# Altium footprint library uw.PCBLIB: 5 footprints
Each footprint in its own frame and in the unit in brackets; x right, y up, seen from the top. Pads: shape width x height; smd on the part's side, far side on the other; paste and mask are expansions set on the pad; w line width, h text height; cw(c..) or ccw(c..) is an arc to the next point about the centre after c.
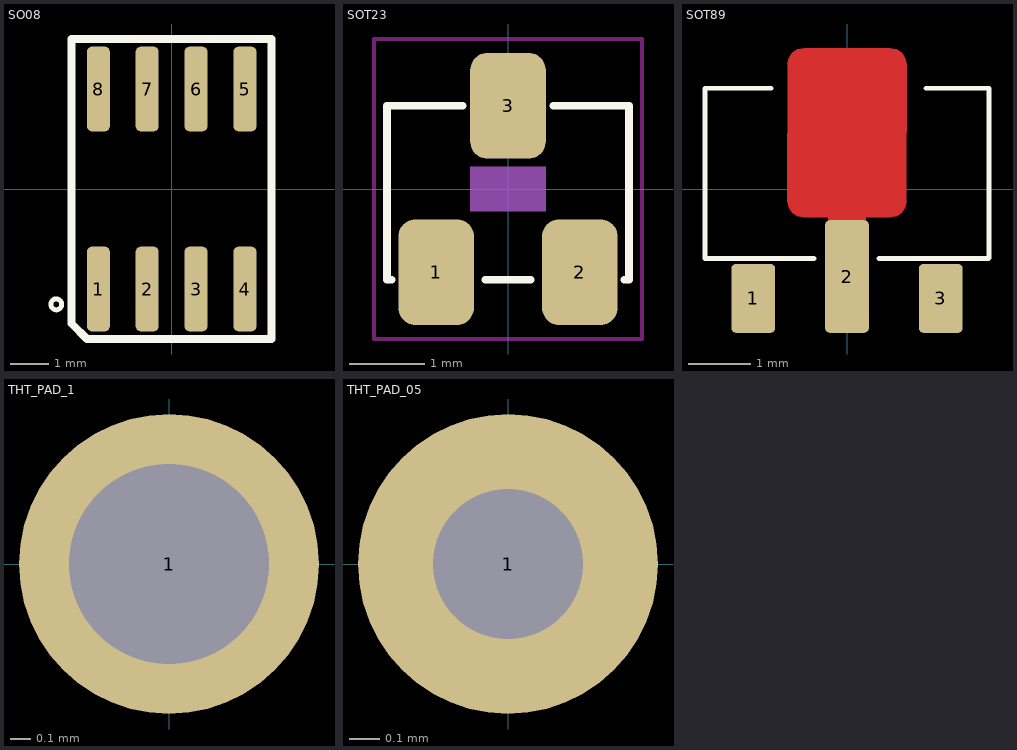
[diagram p0: the footprints below, top view; thin cyan lines are the x and y axes]

## SO08 [mm]
pads (8):
  rrect45% 0.6x2.2 smd: 1(-1.905,-2.6) 2(-0.635,-2.6) 3(0.635,-2.6) 4(1.905,-2.6) 5(1.905,2.6) 6(0.635,2.6) 7(-0.635,2.6) 8(-1.905,2.6)
Top Overlay:
  circle w0.127: c-3,-3 r0.141
  lines w0.203: -2.6,-3.5 -2.2,-3.9 2.6,-3.9 2.6,3.9 -2.6,3.9 -2.6,-3.5

## SOT23 [mm]
pads (3):
  rrect45% 1x1.4 smd: 1(-0.95,-1.1) 2(0.95,-1.1) 3(0,1.1)
Top Overlay:
  lines w0.1: -1.54,-1.2 -1.6,-1.2 -1.6,1.1 -0.6,1.1 ; -0.3,-1.2 0.3,-1.2 ; 0.6,1.1 1.6,1.1 1.6,-1.2 1.54,-1.2
Keep-Out Layer:
  lines w0.051: -1.773,-1.983 1.773,-1.983 1.773,1.983 -1.773,1.983 -1.773,-1.983
Assembly Top:
  rectangle: -0.5,-0.3 0.5,0.3

## SOT89 [mm]
pads (3):
  rrect20% 0.7x1.1 smd: 1(-1.5,-1.75) 3(1.5,-1.75)
  rrect20% 0.7x1.8 smd paste-0.9 mask-0.9: 2(0,-1.4)
Top Layer:
  region: -0.3,-0.45 -0.305,-1.621 -0.285,-1.72 -0.229,-1.804 -0.145,-1.86 -0.046,-1.88 -0.046,-1.875 0.046,-1.88 0.145,-1.86 0.229,-1.804 0.285,-1.72 0.305,-1.621 0.3,-1.621 0.3,-0.45 0.696,-0.455 0.795,-0.435 0.879,-0.379 0.935,-0.295 0.955,-0.196 0.95,-0.196 0.955,1.996 0.935,2.095 0.879,2.179 0.795,2.235 0.696,2.255 0.696,2.25 -0.696,2.255 -0.795,2.235 -0.879,2.179 -0.935,2.095 -0.955,1.996 -0.95,1.996 -0.955,-0.196 -0.935,-0.295 -0.879,-0.379 -0.795,-0.435 -0.696,-0.455 -0.696,-0.45
Top Overlay:
  lines w0.076: -1.214,1.61 -2.272,1.61 -2.272,-1.11 -0.527,-1.11 ; 0.513,-1.11 2.269,-1.11 ; 1.264,1.61 2.272,1.61 2.272,-1.102
Top Paste:
  rectangle: -0.35,-2.3 0.35,-1.2
  rectangle: -0.95,-0.45 0.95,2.25
Top Solder:
  rectangle: -0.45,-2.4 0.45,-1.1
  rectangle: -1.1,-0.6 1.1,2.4

## THT_PAD_1 [mm]
height 25.4
pads (1):
  round 1.5 hole 1: 1(0,0)

## THT_PAD_05 [mm]
height 25.4
pads (1):
  round 1 hole 0.5: 1(0,0)